# EAGLE library part DF11-16DP-2DSA_24_ (library DF11-16DP-2DSA_24_)
Hirose DF11 Series, 2mm Pitch 16 Way 2 Row Straight PCB Header, Solder Termination, 2A Source: Datasheet <https://componentsearchengine.com/Datasheets/2/DF11-16DP-2DSA(24).pdf>
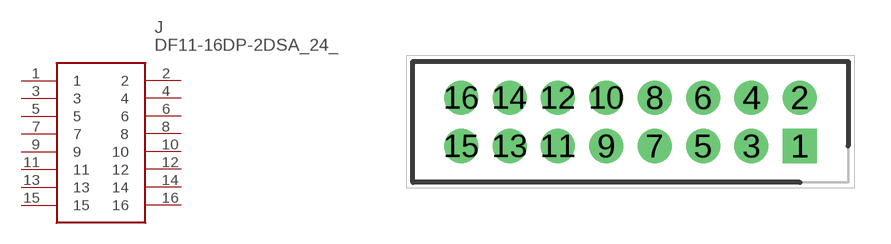
[diagram p0: symbol with the pads of SHDR16W50P200_2X8_1800X500X660; footprint SHDR16W50P200_2X8_1800X500X660]

Designator prefix J

## DF11-16DP-2DSA_24_ (Description: Hirose DF11 Series, 2mm Pitch 16 Way 2 Row Straight PCB Header, Solder Termination, 2A; Height: 6.6mm; Manufacturer_Name: Hirose; Manufacturer_Part_Number: DF11-16DP-2DSA(24); Mouser_Part_Number: 798-DF11-16DP-2DSA24; Mouser_Price-Stock: https://www.mouser.co.uk/ProductDetail/Hirose-Connector/DF11-16DP-2DSA24?qs=zOgoZG1CgI%252BohOLPwxKeuA%3D%3D)  [SHDR16W50P200_2X8_1800X500X660]
1  1
2  2
3  3
4  4
5  5
6  6
7  7
8  8
9  9
10  10
11  11
12  12
13  13
14  14
15  15
16  16

## Footprint SHDR16W50P200_2X8_1800X500X660 (pad centres in mm)
DF11-16DP-2DSA(24)
drill 0.9 pad 1.35 square: 1 0,0
drill 0.9 pad 1.35: 2 0,2; 3 -2,0; 4 -2,2; 5 -4,0; 6 -4,2; 7 -6,0; 8 -6,2; 9 -8,0; 10 -8,2; 11 -10,0; 12 -10,2; 13 -12,0; 14 -12,2; 15 -14,0; 16 -14,2